# EAGLE library part STLINK-V3MODS (library angrypig7-Boards)
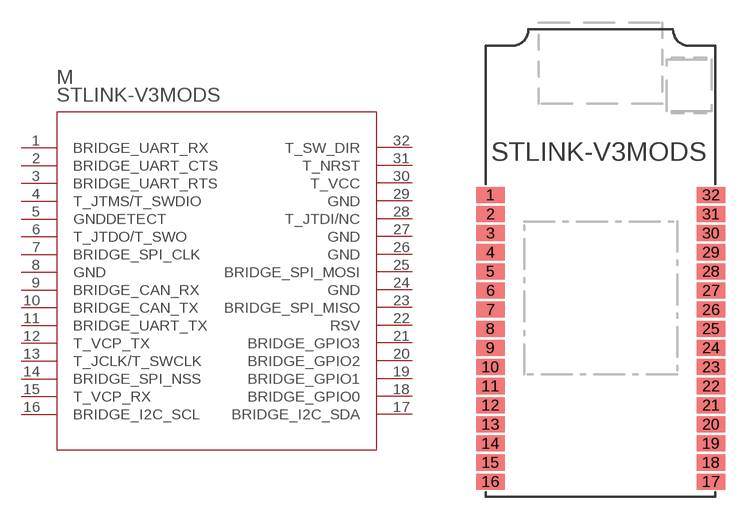
[diagram p13: symbol with the pads of MOD_STLINK-V3M_MB1467; footprint MOD_STLINK-V3M_MB1467]

Designator prefix M

## STLINK-V3MODS (MANUFACTURER_PART_NUMBER: STLINKV3MOS; VENDOR: STMicroelectronics)  [MOD_STLINK-V3M_MB1467]
1  BRIDGE_UART_RX  pas
2  BRIDGE_UART_CTS  pas
3  BRIDGE_UART_RTS  pas
4  T_JTMS/T_SWDIO  pas
5  GNDDETECT  pas
6  T_JTDO/T_SWO  pas
7  BRIDGE_SPI_CLK  pas
8  GND  pas
9  BRIDGE_CAN_RX  pas
10  BRIDGE_CAN_TX  pas
11  BRIDGE_UART_TX  pas
12  T_VCP_TX  pas
13  T_JCLK/T_SWCLK  pas
14  BRIDGE_SPI_NSS  pas
15  T_VCP_RX  pas
16  BRIDGE_I2C_SCL
17  BRIDGE_I2C_SDA
18  BRIDGE_GPIO0
19  BRIDGE_GPIO1
20  BRIDGE_GPIO2
21  BRIDGE_GPIO3
22  RSV  pas
23  BRIDGE_SPI_MISO  pas
24  GND  pas
25  BRIDGE_SPI_MOSI  pas
26  GND  pas
27  GND  pas
28  T_JTDI/NC  pas
29  GND  pas
30  T_VCC  pas
31  T_NRST  pas
32  T_SW_DIR  pas

## Footprint MOD_STLINK-V3M_MB1467 (pad centres in mm)
smd 1.9 x 1.07: 1 -7.32,-9.906; 2 -7.32,-11.176; 3 -7.32,-12.446; 4 -7.32,-13.716; 5 -7.32,-14.986; 6 -7.32,-16.256; 7 -7.32,-17.526; 8 -7.32,-18.796; 9 -7.32,-20.066; 10 -7.32,-21.336; 11 -7.32,-22.606; 12 -7.32,-23.876; 13 -7.32,-25.146; 14 -7.32,-26.416; 15 -7.32,-27.686; 16 -7.32,-28.956; 17 7.32,-28.956; 18 7.32,-27.686; 19 7.32,-26.416; 20 7.32,-25.146; 21 7.32,-23.876; 22 7.32,-22.606; 23 7.32,-21.336; 24 7.32,-20.066; 25 7.32,-18.796; 26 7.32,-17.526; 27 7.32,-16.256; 28 7.32,-14.986; 29 7.32,-13.716; 30 7.32,-12.446; 31 7.32,-11.176; 32 7.32,-9.906